# Altium footprint library multiplexorparts.PcbLib: 20 footprints (part 1 of 2)
Each footprint in its own frame and in the unit in brackets; x right, y up, seen from the top. Pads: shape width x height; smd on the part's side, far side on the other; paste and mask are expansions set on the pad; w line width, h text height; cw(c..) or ccw(c..) is an arc to the next point about the centre after c.
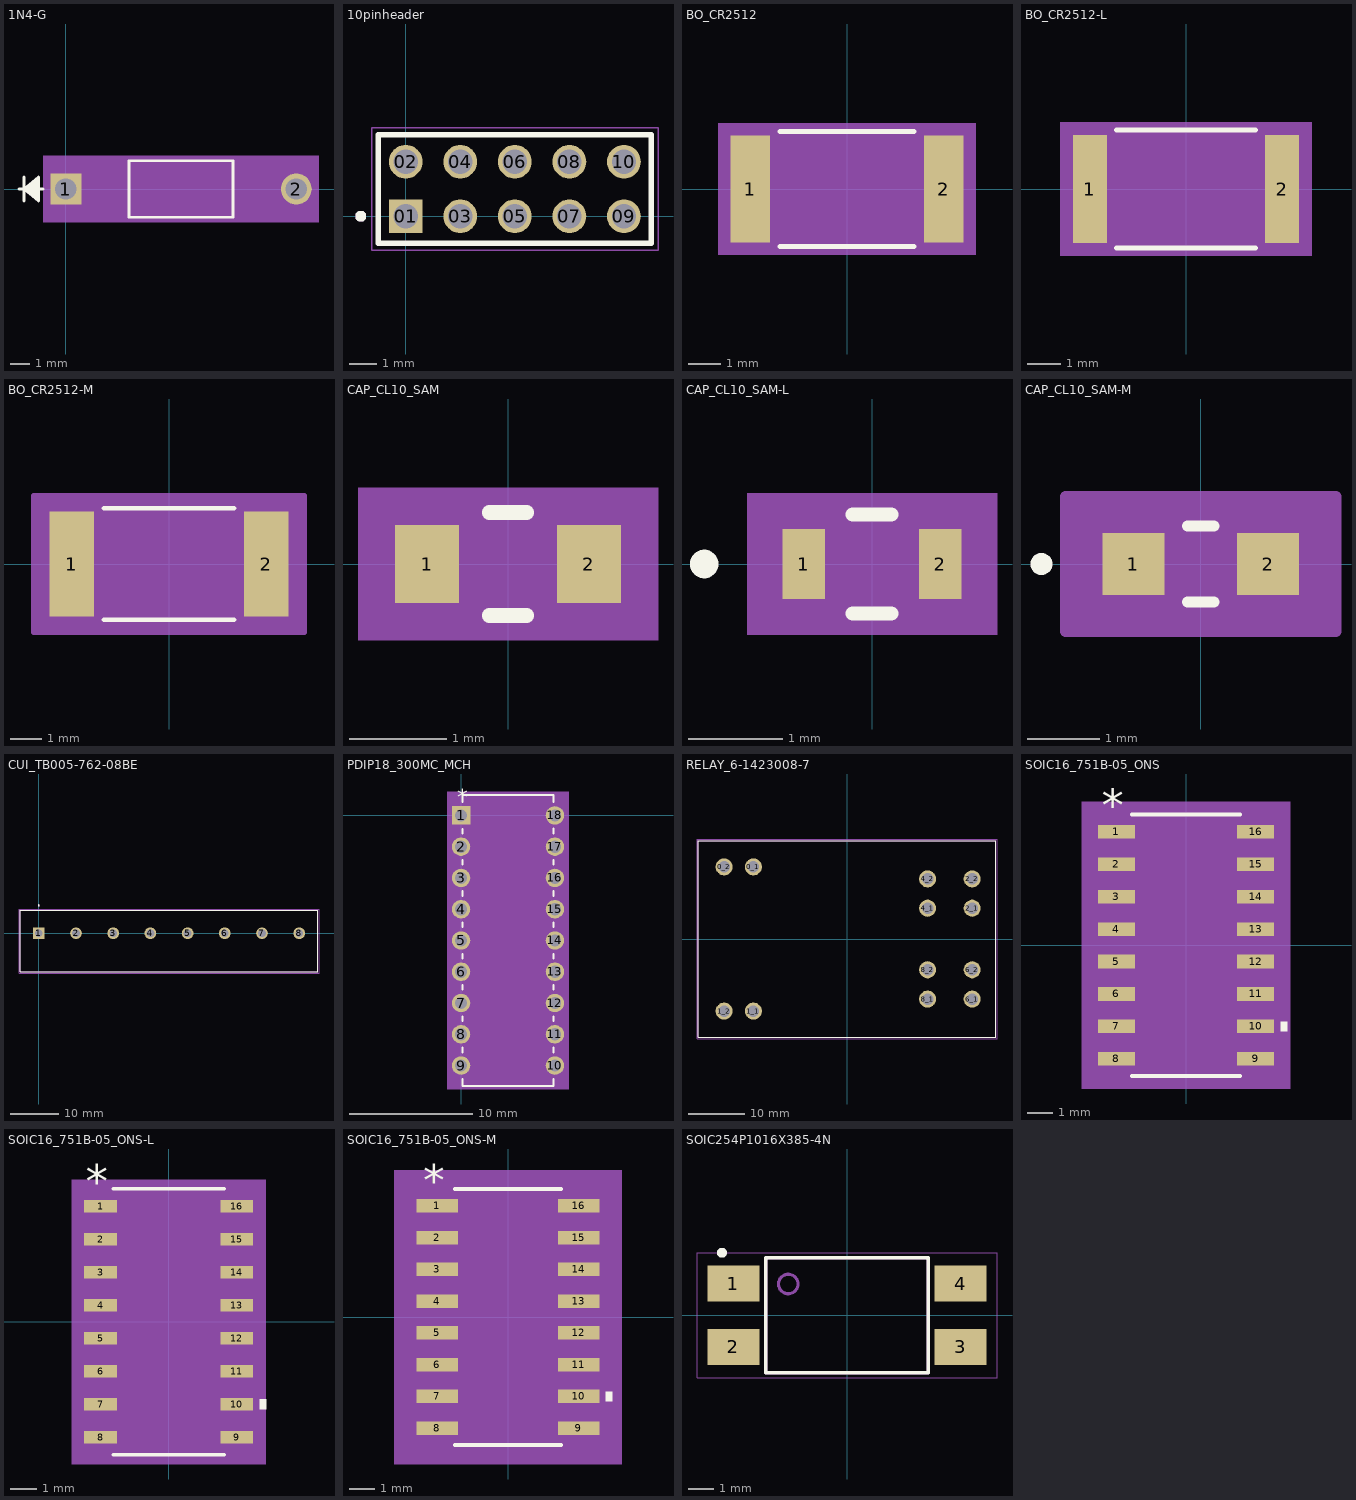
[diagram p0: the footprints below, top view; thin cyan lines are the x and y axes]

## 1N4-G [mil]
pads (2):
  rect 64x64 hole 44 mask+0: 1(0,0)
  round 64 hole 44 mask+0: 2(477,0)
Top Overlay:
  lines w6: -97,0 -47,0 ; -87,-25 -87,25 ; -57,-20 -87,0 ; -57,-15 -87,0 ; -57,-10 -87,0 ; -57,-5 -87,0 ; -57,5 -87,0 ; -57,10 -87,0 ; -57,15 -87,0 ; -57,20 -87,0 ; -87,0 -57,-25 -57,25 -87,0 ; 131,-58.5 131,58.5 346,58.5 346,-58.5 131,-58.5
Mechanical 5:
  region: 524,-68.5 -47,-68.5 -47,68.5 524,68.5
Mechanical 13:
  lines w1: -97,0 -47,0 ; -87,-25 -87,25 ; -57,-20 -87,0 ; -57,-15 -87,0 ; -57,-10 -87,0 ; -57,-5 -87,0 ; -57,5 -87,0 ; -57,10 -87,0 ; -57,15 -87,0 ; -57,20 -87,0 ; 0,0 136,0 ; 341,0 477,0 ; -87,0 -57,-25 -57,25 -87,0 ; 136,-53.5 136,53.5 341,53.5 341,-53.5 136,-53.5
Mechanical 15:
  region: 126,-42 -42,-42 -42,42 126,42 126,63.5 351,63.5 351,42 519,42 519,-42 351,-42 351,-63.5 126,-63.5
  lines w6: -42,-42 126,-42 126,-63.5 351,-63.5 351,-42 519,-42 519,42 351,42 351,63.5 126,63.5 126,42 -42,42 -42,-42
3D body: height 10, standoff 0, extent 0,0 10,10

## 10pinheader [mm]
pads (10):
  rect 1.239x1.239 hole 0.889: 01(0,0)
  round 1.239 hole 0.889: 02(0,2) 03(2,0) 04(2,2) 05(4,0) 06(4,2) 07(6,0) 08(6,2) 09(8,0) 10(8,2)
Top Overlay:
  circle w0.2: c-1.65,0 r0.1
  lines w0.2: -1,-0.995 9,-0.995 9,2.995 -1,2.995 -1,-0.995
Mechanical 13:
  circle w0.2: c-1.65,0 r0.1
  lines w0.1: -1,-0.995 9,-0.995 9,2.995 -1,2.995 -1,-0.995
Mechanical 15:
  lines w0.05: -1.25,-1.245 9.25,-1.245 9.25,3.245 -1.25,3.245 -1.25,-1.245

## BO_CR2512 [mil]
pads (2):
  rect 48x130 smd paste+0 mask+0: 1(-118,0) 2(118,0)
Top Overlay:
  lines w6: -81.89,-70 81.89,-70 ; -81.89,70 81.89,70
Mechanical 5:
  region: 157,-80 -157,-80 -157,80 157,80
Mechanical 13:
  lines w1: -128,-65 -128,65 ; -128,-65 128,-65 ; -128,-65 -94,-65 -94,65 -128,65 ; -128,-65 -128,65 ; -128,65 128,65 ; 128,-65 128,65 ; 128,-65 128,65 ; 128,-65 94,-65 94,65 128,65
Mechanical 15:
  region: 152,-75 -152,-75 -152,75 152,75
  lines w6: -152,-75 152,-75 152,75 -152,75 -152,-75
3D body "BO_CR2512.step": height 30, standoff 0, extent -127.99,-65 127.99,65

## BO_CR2512-L [mil]
pads (2):
  rect 40x128 smd paste+0 mask+0: 1(-114,0) 2(114,0)
Top Overlay:
  lines w6: -82.35,-70 82.35,-70 ; -82.35,70 82.35,70
Mechanical 5:
  region: 149,-79 -149,-79 -149,79 149,79
Mechanical 13:
  lines w1: -128,-65 -128,65 ; -128,-65 -94,-65 -94,65 -128,65 ; -128,-65 128,-65 ; -128,-65 -128,65 ; -128,65 128,65 ; 128,-65 94,-65 94,65 128,65 ; 128,-65 128,65 ; 128,-65 128,65
Mechanical 15:
  region: 138,-68 -138,-68 -138,68 138,68
  lines w6: -138,-68 -138,68 138,68 138,-68 -138,-68
3D body "BO_CR2512.step": height 30, standoff 0, extent -127.99,-65 127.99,65

## BO_CR2512-M [mil]
pads (2):
  rect 56x132 smd paste+0 mask+0: 1(-122,0) 2(122,0)
Top Overlay:
  lines w6: -81.53,-70 81.53,-70 ; -81.53,70 81.53,70
Mechanical 5:
  region: 165,-81 -165,-81 -165,81 165,81
Mechanical 13:
  lines w1: -128,-65 -128,65 ; -128,-65 -94,-65 -94,65 -128,65 ; -128,-65 128,-65 ; -128,-65 -128,65 ; -128,65 128,65 ; 128,-65 94,-65 94,65 128,65 ; 128,-65 128,65 ; 128,-65 128,65
Mechanical 15:
  region: 170,-86 -170,-86 -170,86 170,86
  lines w6: -170,-86 -170,86 170,86 170,-86 -170,-86
3D body "BO_CR2512.step": height 30, standoff 0, extent -127.99,-65 127.99,65

## CAP_CL10_SAM [mm]
pads (2):
  rect 0.656x0.8 smd paste+0 mask+0: 1(-0.828,0) 2(0.828,0)
Top Overlay:
  lines w0.152: -0.192,-0.527 0.192,-0.527 ; -0.192,0.527 0.192,0.527
Mechanical 5:
  region: 1.537,-0.781 -1.537,-0.781 -1.537,0.781 1.537,0.781
Mechanical 13:
  lines w0.025: -0.8,-0.4 -0.8,0.4 ; -0.8,-0.4 0.8,-0.4 ; -0.8,-0.4 -0.5,-0.4 -0.5,0.4 -0.8,0.4 ; -0.8,-0.4 -0.8,0.4 ; -0.8,0.4 0.8,0.4 ; 0.8,-0.4 0.8,0.4 ; 0.8,-0.4 0.8,0.4 ; 0.8,-0.4 0.5,-0.4 0.5,0.4 0.8,0.4
Mechanical 15:
  region: 1.41,-0.654 -1.41,-0.654 -1.41,0.654 1.41,0.654
  lines w0.152: -1.41,-0.654 1.41,-0.654 1.41,0.654 -1.41,0.654 -1.41,-0.654
3D body "CAP_CL10_SAM.step": height 0.9, standoff 0, extent -0.8,-0.4 0.8,0.4

## CAP_CL10_SAM-L [mil]
pads (2):
  rect 17.81x29.5 smd paste+0 mask+0: 1(-28.59,0) 2(28.59,0)
Top Overlay:
  circle w6: c-70.5,0 r3
  lines w6: -8.04,-20.75 8.04,-20.75 ; -8.04,20.75 8.04,20.75
Mechanical 5:
  region: 52.5,-29.75 -52.5,-29.75 -52.5,29.75 52.5,29.75
Mechanical 13:
  circle w0: c-23.59,0 r3
  lines w1: -31.5,-15.75 -31.5,15.75 ; -31.5,-15.75 -19.68,-15.75 -19.68,15.75 -31.5,15.75 ; -31.5,-15.75 31.5,-15.75 ; -31.5,-15.75 -31.5,15.75 ; -31.5,15.75 31.5,15.75 ; 31.5,-15.75 19.68,-15.75 19.68,15.75 31.5,15.75 ; 31.5,-15.75 31.5,15.75 ; 31.5,-15.75 31.5,15.75
Mechanical 15:
  region: 41.5,-18.75 -41.5,-18.75 -41.5,18.75 41.5,18.75
  lines w6: -41.5,-18.75 -41.5,18.75 41.5,18.75 41.5,-18.75 -41.5,-18.75
3D body "CAP_CL10_SAM.step": height 35.43, standoff 0, extent -31.5,-15.75 31.5,15.75

## CAP_CL10_SAM-M [mil]
pads (2):
  rect 33.81x33.5 smd paste+0 mask+0: 1(-36.59,0) 2(36.59,0)
Top Overlay:
  circle w6: c-86.5,0 r3
  lines w6: -7.21,-20.75 7.21,-20.75 ; -7.21,20.75 7.21,20.75
Mechanical 5:
  region: 68.5,-31.75 -68.5,-31.75 -68.5,31.75 68.5,31.75
Mechanical 13:
  circle w0: c-31.59,0 r3
  lines w1: -31.5,-15.75 -31.5,15.75 ; -31.5,-15.75 -19.68,-15.75 -19.68,15.75 -31.5,15.75 ; -31.5,-15.75 31.5,-15.75 ; -31.5,-15.75 -31.5,15.75 ; -31.5,15.75 31.5,15.75 ; 31.5,-15.75 19.68,-15.75 19.68,15.75 31.5,15.75 ; 31.5,-15.75 31.5,15.75 ; 31.5,-15.75 31.5,15.75
Mechanical 15:
  region: 73.5,-36.75 -73.5,-36.75 -73.5,36.75 73.5,36.75
  lines w6: -73.5,-36.75 -73.5,36.75 73.5,36.75 73.5,-36.75 -73.5,-36.75
3D body "CAP_CL10_SAM.step": height 35.43, standoff 0, extent -31.5,-15.75 31.5,15.75

## CUI_TB005-762-08BE [mm]
pads (8):
  rect 2.4x2.4 hole 1.6: 1(0,0)
  round 2.4 hole 1.6: 2(7.62,0) 3(15.24,0) 4(22.86,0) 5(30.48,0) 6(38.1,0) 7(45.72,0) 8(53.34,0)
Top Overlay:
  circle w0.2: c0,5.7 r0.1
  lines w0.127: -3.81,-7.9 57.15,-7.9 57.15,4.7 -3.81,4.7 -3.81,-7.9
Mechanical 13:
  circle w0.2: c0,5.7 r0.1
  lines w0.127: -3.81,-7.9 57.15,-7.9 57.15,4.7 -3.81,4.7 -3.81,-7.9
Mechanical 15:
  lines w0.05: -4.06,-8.15 -4.06,4.95 57.4,4.95 57.4,-8.15 -4.06,-8.15

## PCBComponent_1 [mil]

## PDIP18_300MC_MCH [mil]
pads (18):
  rect 59x59 hole 39 mask+0: 1(0,0)
  round 59 hole 39 mask+0: 2(0,-100) 3(0,-200) 4(0,-300) 5(0,-400) 6(0,-500) 7(0,-600) 8(0,-700) 9(0,-800) 10(300,-800) 11(300,-700) 12(300,-600) 13(300,-500) 14(300,-400) 15(300,-300) 16(300,-200) 17(300,-100) 18(300,0)
Top Overlay:
  lines w6: 5,-842.31 5,-865 295,-865 295,-842.31 ; 5,-757.69 5,-742.31 ; 5,-657.69 5,-642.31 ; 5,-557.69 5,-542.31 ; 5,-457.69 5,-442.31 ; 5,-357.69 5,-342.31 ; 5,-257.69 5,-242.31 ; 5,-157.69 5,-142.31 ; 5,-57.69 5,-42.6 ; 5,42.6 5,65 295,65 295,42.31 ; 295,-757.69 295,-742.31 ; 295,-657.69 295,-642.31 ; 295,-557.69 295,-542.31 ; 295,-457.69 295,-442.31 ; 295,-357.69 295,-342.31 ; 295,-257.69 295,-242.31 ; 295,-157.69 295,-142.31 ; 295,-57.69 295,-42.31
  text "*" at -12.5,34.5 h50
Mechanical 5:
  region: 344.5,-875 -44.5,-875 -44.5,75 344.5,75
Mechanical 13:
  lines w0: 138,60 ccw(c150,60) 162,60
  lines w1: -19.5,-819.5 10,-819.5 10,-780.5 -19.5,-780.5 -19.5,-819.5 ; -19.5,-719.5 10,-719.5 10,-680.5 -19.5,-680.5 -19.5,-719.5 ; -19.5,-619.5 10,-619.5 10,-580.5 -19.5,-580.5 -19.5,-619.5 ; -19.5,-519.5 10,-519.5 10,-480.5 -19.5,-480.5 -19.5,-519.5 ; -19.5,-419.5 10,-419.5 10,-380.5 -19.5,-380.5 -19.5,-419.5 ; -19.5,-319.5 10,-319.5 10,-280.5 -19.5,-280.5 -19.5,-319.5 ; -19.5,-219.5 10,-219.5 10,-180.5 -19.5,-180.5 -19.5,-219.5 ; -19.5,-119.5 10,-119.5 10,-80.5 -19.5,-80.5 -19.5,-119.5 ; -19.5,-19.5 10,-19.5 10,19.5 -19.5,19.5 -19.5,-19.5 ; 10,-860 10,60 290,60 290,-860 10,-860 ; 290,-819.5 319.5,-819.5 319.5,-780.5 290,-780.5 290,-819.5 ; 290,-719.5 319.5,-719.5 319.5,-680.5 290,-680.5 290,-719.5 ; 290,-619.5 319.5,-619.5 319.5,-580.5 290,-580.5 290,-619.5 ; 290,-519.5 319.5,-519.5 319.5,-480.5 290,-480.5 290,-519.5 ; 290,-419.5 319.5,-419.5 319.5,-380.5 290,-380.5 290,-419.5 ; 290,-319.5 319.5,-319.5 319.5,-280.5 290,-280.5 290,-319.5 ; 290,-219.5 319.5,-219.5 319.5,-180.5 290,-180.5 290,-219.5 ; 290,-119.5 319.5,-119.5 319.5,-80.5 290,-80.5 290,-119.5 ; 290,-19.5 319.5,-19.5 319.5,19.5 290,19.5 290,-19.5
  text "*" at 7.5,-25 h50
Mechanical 15:
  region: 300,-840 339.5,-840 339.5,40 300,40 300,70 0,70 0,40 -39.5,40 -39.5,-840 0,-840 0,-870 300,-870
  lines w6: -39.5,-840 0,-840 0,-870 300,-870 300,-840 339.5,-840 339.5,40 300,40 300,70 0,70 0,40 -39.5,40 -39.5,-840
3D body "PDIP18_300MC_MCH.step": height 215.12, standoff -100, extent -5,-860 315,60

## RELAY_6-1423008-7 [mm]
pads (12):
  round 3.009 hole 2.006: 0_1(-16.48,12.7) 0_2(-21.64,12.7) 1_1(-16.48,-12.7) 1_2(-21.64,-12.7) 2_1(22.04,5.42) 2_2(22.04,10.58) 4_1(14.19,5.42) 4_2(14.19,10.58) 6_1(22.04,-10.58) 6_2(22.04,-5.42) 8_1(14.19,-10.58) 8_2(14.19,-5.42)
Top Overlay:
  lines w0.127: -26.16,-17.27 26.16,-17.27 26.16,17.27 -26.16,17.27 -26.16,-17.27
Mechanical 13:
  lines w0.127: -26.16,-17.27 26.16,-17.27 26.16,17.27 -26.16,17.27 -26.16,-17.27
Mechanical 15:
  lines w0.05: -26.41,-17.52 -26.41,17.52 26.41,17.52 26.41,-17.52 -26.41,-17.52

## SOIC16_751B-05_ONS [mil]
pads (16):
  rect 57.5x21 smd paste+0 mask+0: 1(-107.25,175) 2(-107.25,125) 3(-107.25,75) 4(-107.25,25) 5(-107.25,-25) 6(-107.25,-75) 7(-107.25,-125) 8(-107.25,-175) 9(107.25,-175) 10(107.25,-125) 11(107.25,-75) 12(107.25,-25) 13(107.25,25) 14(107.25,75) 15(107.25,125) 16(107.25,175)
Top Overlay:
  region: 146,-117.5 156,-117.5 156,-132.5 146,-132.5
  lines w6: -83.5,-201.5 83.5,-201.5 ; -83.5,201.5 83.5,201.5
  text "*" at -129.75,191 h50
Mechanical 5:
  region: 161,-221.5 -161,-221.5 -161,221.5 161,221.5
Mechanical 13:
  lines w0: -12,196.5 ccw(c0,196.5) 12,196.5
  lines w1: -122,-184.5 -122,-165.5 -78.5,-165.5 -78.5,-184.5 -122,-184.5 ; -122,-134.5 -122,-115.5 -78.5,-115.5 -78.5,-134.5 -122,-134.5 ; -122,-84.5 -122,-65.5 -78.5,-65.5 -78.5,-84.5 -122,-84.5 ; -122,-34.5 -122,-15.5 -78.5,-15.5 -78.5,-34.5 -122,-34.5 ; -122,15.5 -122,34.5 -78.5,34.5 -78.5,15.5 -122,15.5 ; -122,65.5 -122,84.5 -78.5,84.5 -78.5,65.5 -122,65.5 ; -122,115.5 -122,134.5 -78.5,134.5 -78.5,115.5 -122,115.5 ; -122,165.5 -122,184.5 -78.5,184.5 -78.5,165.5 -122,165.5 ; -78.5,-196.5 78.5,-196.5 78.5,196.5 -78.5,196.5 -78.5,-196.5 ; 78.5,-184.5 78.5,-165.5 122,-165.5 122,-184.5 78.5,-184.5 ; 78.5,-134.5 78.5,-115.5 122,-115.5 122,-134.5 78.5,-134.5 ; 78.5,-84.5 78.5,-65.5 122,-65.5 122,-84.5 78.5,-84.5 ; 78.5,-34.5 78.5,-15.5 122,-15.5 122,-34.5 78.5,-34.5 ; 78.5,15.5 78.5,34.5 122,34.5 122,15.5 78.5,15.5 ; 78.5,65.5 78.5,84.5 122,84.5 122,65.5 78.5,65.5 ; 78.5,115.5 78.5,134.5 122,134.5 122,115.5 78.5,115.5 ; 78.5,165.5 78.5,184.5 122,184.5 122,165.5 78.5,165.5
  text "*" at -76,143.5 h50
Mechanical 15:
  region: -88.5,-195.5 -146,-195.5 -146,195.5 -88.5,195.5 -88.5,206.5 88.5,206.5 88.5,195.5 146,195.5 146,-195.5 88.5,-195.5 88.5,-206.5 -88.5,-206.5
  lines w6: -146,-195.5 -146,195.5 -88.5,195.5 -88.5,206.5 88.5,206.5 88.5,195.5 146,195.5 146,-195.5 88.5,-195.5 88.5,-206.5 -88.5,-206.5 -88.5,-195.5 -146,-195.5
3D body "SOIC16_751B-05_ONS.step": height 69.09, standoff 0, extent -122.01,-196.5 122.01,196.5

## SOIC16_751B-05_ONS-L [mil]
pads (16):
  rect 49.5x19 smd paste+0 mask+0: 1(-103.25,175) 2(-103.25,125) 3(-103.25,75) 4(-103.25,25) 5(-103.25,-25) 6(-103.25,-75) 7(-103.25,-125) 8(-103.25,-175) 9(103.25,-175) 10(103.25,-125) 11(103.25,-75) 12(103.25,-25) 13(103.25,25) 14(103.25,75) 15(103.25,125) 16(103.25,175)
Top Overlay:
  region: 138,-117.5 148,-117.5 148,-132.5 138,-132.5
  lines w6: -83.5,-201.5 83.5,-201.5 ; -83.5,201.5 83.5,201.5
  text "*" at -125.75,189 h50
Mechanical 5:
  region: 147,-215.5 -147,-215.5 -147,215.5 147,215.5
Mechanical 13:
  lines w0: -12,196.5 ccw(c0,196.5) 12,196.5
  lines w1: -122,-184.5 -122,-165.5 -78.5,-165.5 -78.5,-184.5 -122,-184.5 ; -122,-134.5 -122,-115.5 -78.5,-115.5 -78.5,-134.5 -122,-134.5 ; -122,-84.5 -122,-65.5 -78.5,-65.5 -78.5,-84.5 -122,-84.5 ; -122,-34.5 -122,-15.5 -78.5,-15.5 -78.5,-34.5 -122,-34.5 ; -122,15.5 -122,34.5 -78.5,34.5 -78.5,15.5 -122,15.5 ; -122,65.5 -122,84.5 -78.5,84.5 -78.5,65.5 -122,65.5 ; -122,115.5 -122,134.5 -78.5,134.5 -78.5,115.5 -122,115.5 ; -122,165.5 -122,184.5 -78.5,184.5 -78.5,165.5 -122,165.5 ; -78.5,-196.5 78.5,-196.5 78.5,196.5 -78.5,196.5 -78.5,-196.5 ; 78.5,-184.5 78.5,-165.5 122,-165.5 122,-184.5 78.5,-184.5 ; 78.5,-134.5 78.5,-115.5 122,-115.5 122,-134.5 78.5,-134.5 ; 78.5,-84.5 78.5,-65.5 122,-65.5 122,-84.5 78.5,-84.5 ; 78.5,-34.5 78.5,-15.5 122,-15.5 122,-34.5 78.5,-34.5 ; 78.5,15.5 78.5,34.5 122,34.5 122,15.5 78.5,15.5 ; 78.5,65.5 78.5,84.5 122,84.5 122,65.5 78.5,65.5 ; 78.5,115.5 78.5,134.5 122,134.5 122,115.5 78.5,115.5 ; 78.5,165.5 78.5,184.5 122,184.5 122,165.5 78.5,165.5
  text "*" at -76,143.5 h50
Mechanical 15:
  region: -82.5,-188.5 -132,-188.5 -132,188.5 -82.5,188.5 -82.5,200.5 82.5,200.5 82.5,188.5 132,188.5 132,-188.5 82.5,-188.5 82.5,-200.5 -82.5,-200.5
  lines w6: -132,-188.5 -132,188.5 -82.5,188.5 -82.5,200.5 82.5,200.5 82.5,188.5 132,188.5 132,-188.5 82.5,-188.5 82.5,-200.5 -82.5,-200.5 -82.5,-188.5 -132,-188.5
3D body "SOIC16_751B-05_ONS.step": height 69.09, standoff 0, extent -122.01,-196.5 122.01,196.5

## SOIC16_751B-05_ONS-M [mil]
pads (16):
  rect 65.5x21 smd paste+0 mask+0: 1(-111.25,175) 2(-111.25,125) 3(-111.25,75) 4(-111.25,25) 5(-111.25,-25) 6(-111.25,-75) 7(-111.25,-125) 8(-111.25,-175) 9(111.25,-175) 10(111.25,-125) 11(111.25,-75) 12(111.25,-25) 13(111.25,25) 14(111.25,75) 15(111.25,125) 16(111.25,175)
Top Overlay:
  region: 154,-117.5 164,-117.5 164,-132.5 154,-132.5
  lines w6: -83.5,-201.5 83.5,-201.5 ; -83.5,201.5 83.5,201.5
  text "*" at -133.75,191 h50
Mechanical 5:
  region: 179,-231.5 -179,-231.5 -179,231.5 179,231.5
Mechanical 13:
  lines w0: -12,196.5 ccw(c0,196.5) 12,196.5
  lines w1: -122,-184.5 -122,-165.5 -78.5,-165.5 -78.5,-184.5 -122,-184.5 ; -122,-134.5 -122,-115.5 -78.5,-115.5 -78.5,-134.5 -122,-134.5 ; -122,-84.5 -122,-65.5 -78.5,-65.5 -78.5,-84.5 -122,-84.5 ; -122,-34.5 -122,-15.5 -78.5,-15.5 -78.5,-34.5 -122,-34.5 ; -122,15.5 -122,34.5 -78.5,34.5 -78.5,15.5 -122,15.5 ; -122,65.5 -122,84.5 -78.5,84.5 -78.5,65.5 -122,65.5 ; -122,115.5 -122,134.5 -78.5,134.5 -78.5,115.5 -122,115.5 ; -122,165.5 -122,184.5 -78.5,184.5 -78.5,165.5 -122,165.5 ; -78.5,-196.5 78.5,-196.5 78.5,196.5 -78.5,196.5 -78.5,-196.5 ; 78.5,-184.5 78.5,-165.5 122,-165.5 122,-184.5 78.5,-184.5 ; 78.5,-134.5 78.5,-115.5 122,-115.5 122,-134.5 78.5,-134.5 ; 78.5,-84.5 78.5,-65.5 122,-65.5 122,-84.5 78.5,-84.5 ; 78.5,-34.5 78.5,-15.5 122,-15.5 122,-34.5 78.5,-34.5 ; 78.5,15.5 78.5,34.5 122,34.5 122,15.5 78.5,15.5 ; 78.5,65.5 78.5,84.5 122,84.5 122,65.5 78.5,65.5 ; 78.5,115.5 78.5,134.5 122,134.5 122,115.5 78.5,115.5 ; 78.5,165.5 78.5,184.5 122,184.5 122,165.5 78.5,165.5
  text "*" at -76,143.5 h50
Mechanical 15:
  region: -98.5,-205.5 -164,-205.5 -164,205.5 -98.5,205.5 -98.5,216.5 98.5,216.5 98.5,205.5 164,205.5 164,-205.5 98.5,-205.5 98.5,-216.5 -98.5,-216.5
  lines w6: -164,-205.5 -164,205.5 -98.5,205.5 -98.5,216.5 98.5,216.5 98.5,205.5 164,205.5 164,-205.5 98.5,-205.5 98.5,-216.5 -98.5,-216.5 -98.5,-205.5 -164,-205.5
3D body "SOIC16_751B-05_ONS.step": height 69.09, standoff 0, extent -122.01,-196.5 122.01,196.5

## SOIC254P1016X385-4N [mm]
pads (4):
  rect 2.09x1.44 smd: 1(-4.54,1.27) 2(-4.54,-1.27) 3(4.54,-1.27) 4(4.54,1.27)
Top Overlay:
  circle w0.2: c-5,2.5 r0.1
  lines w0.127: -3.25,-2.3 -3.25,2.3 3.25,2.3 3.25,-2.3 -3.25,-2.3
Mechanical 13:
  circle w0.127: c-2.35,1.25 r0.391
  lines w0.127: -3.25,-2.3 -3.25,2.3 3.25,2.3 3.25,-2.3 -3.25,-2.3
Mechanical 15:
  lines w0.05: -6,-2.5 -6,2.5 6,2.5 6,-2.5 -6,-2.5